# Altium footprint library PFC.PcbLib: 1 footprints
Each footprint in its own frame and in the unit in brackets; x right, y up, seen from the top. Pads: shape width x height; smd on the part's side, far side on the other; paste and mask are expansions set on the pad; w line width, h text height; cw(c..) or ccw(c..) is an arc to the next point about the centre after c.
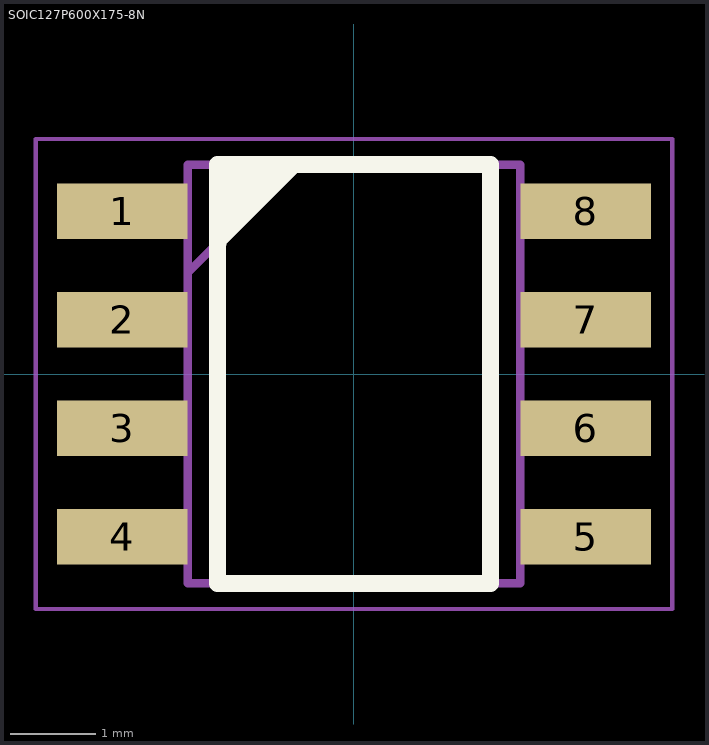
[diagram p0: the footprint, top view; thin cyan lines are the x and y axes]

## SOIC127P600X175-8N [mm]
height 1.6
pads (8):
  rect 1.528x0.65 smd: 1(-2.711,1.905) 2(-2.711,0.635) 3(-2.711,-0.635) 4(-2.711,-1.905) 5(2.711,-1.905) 6(2.711,-0.635) 7(2.711,0.635) 8(2.711,1.905)
Top Overlay:
  lines w0.2: -1.595,1.528 -1.595,1.563 -0.749,2.408 ; -1.595,1.856 -1.552,1.856 -1.086,2.322 ; -1.255,2.363 -1.307,2.31 -1.456,2.31 -1.5,2.267 -1.5,1.76 -1.495,1.755 -0.869,2.381 cw(c-0.823,2.335) -0.823,2.4 -1.114,2.4 -1.5,2.014 -1.5,1.75 ; -1.5,1.75 ccw(c-1.5,1.75) -1.5,1.75 ; -1.598,-2.452 1.598,-2.452 1.598,2.452 -1.598,2.452 -1.598,-2.452
Mechanical 13:
  lines w0.1: -1.948,1.182 -0.678,2.452 ; -1.948,-2.452 1.948,-2.452 1.948,2.452 -1.948,2.452 -1.948,-2.452
Mechanical 15:
  lines w0.05: -3.725,-2.75 3.725,-2.75 3.725,2.75 -3.725,2.75 -3.725,-2.75
3D body "UCC28019AD.stp": height 1.63, standoff 0, extent -3.011,-2.451 3.011,2.451